# EAGLE library part TPA3138D2PWPR (library TPA3138D2PWPR)
10W 3.5V14.4V Inductor-Free Stereo Analog Input Class-D Audio Amplifier Source: Datasheet <http://www.ti.com/lit/gpn/tpa3138d2>
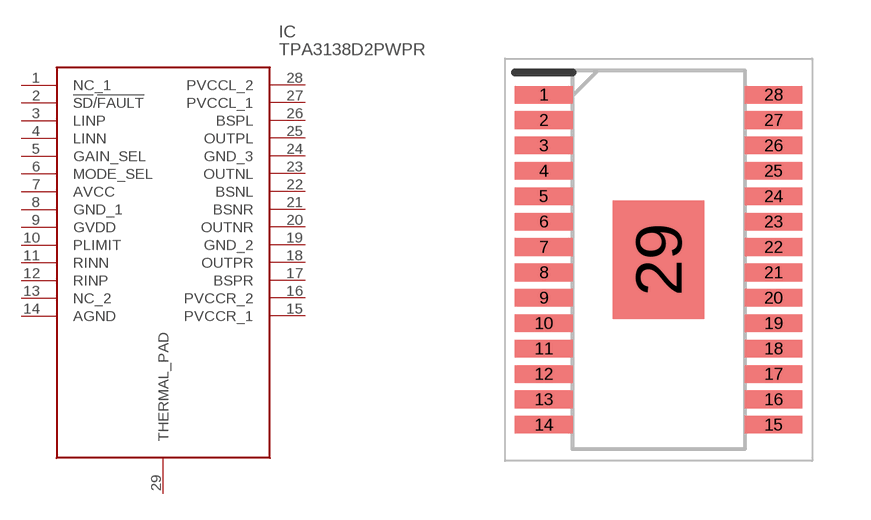
[diagram p0: symbol with the pads of SOP65P640X120-29N; footprint SOP65P640X120-29N]

Designator prefix IC

## TPA3138D2PWPR (Arrow_Part_Number: TPA3138D2PWPR; Arrow_Price-Stock: https://www.arrow.com/en/products/tpa3138d2pwpr/texas-instruments?region=nac; Description: 10W 3.5V14.4V Inductor-Free Stereo Analog Input Class-D Audio Amplifier; Height: 1.2mm; Manufacturer_Name: Texas Instruments; Manufacturer_Part_Number: TPA3138D2PWPR; Mouser_Part_Number: 595-TPA3138D2PWPR; Mouser_Price-Stock: https://www.mouser.co.uk/ProductDetail/Texas-Instruments/TPA3138D2PWPR?qs=fAHHVMwC%252BbipgX0F9%252BCw8A%3D%3D)  [SOP65P640X120-29N]
1  NC_1
2  !SD!/!FAULT
3  LINP
4  LINN
5  GAIN_SEL
6  MODE_SEL
7  AVCC
8  GND_1
9  GVDD
10  PLIMIT
11  RINN
12  RINP
13  NC_2
14  AGND
15  PVCCR_1
16  PVCCR_2
17  BSPR
18  OUTPR
19  GND_2
20  OUTNR
21  BSNR
22  BSNL
23  OUTNL
24  GND_3
25  OUTPL
26  BSPL
27  PVCCL_1
28  PVCCL_2
29  THERMAL_PAD

## Footprint SOP65P640X120-29N (pad centres in mm)
HTSSOP28
smd 1.475 x 0.45: 1 -2.938,4.225; 2 -2.938,3.575; 3 -2.938,2.925; 4 -2.938,2.275; 5 -2.938,1.625; 6 -2.938,0.975; 7 -2.938,0.325; 8 -2.938,-0.325; 9 -2.938,-0.975; 10 -2.938,-1.625; 11 -2.938,-2.275; 12 -2.938,-2.925; 13 -2.938,-3.575; 14 -2.938,-4.225; 15 2.938,-4.225; 16 2.938,-3.575; 17 2.938,-2.925; 18 2.938,-2.275; 19 2.938,-1.625; 20 2.938,-0.975; 21 2.938,-0.325; 22 2.938,0.325; 23 2.938,0.975; 24 2.938,1.625; 25 2.938,2.275; 26 2.938,2.925; 27 2.938,3.575; 28 2.938,4.225
smd 2.34 x 3.04: 29 0,0